# Altium footprint library PANA_ZA_TYPEV_10mm.PcbLib: 1 footprints
Each footprint in its own frame and in the unit in brackets; x right, y up, seen from the top. Pads: shape width x height; smd on the part's side, far side on the other; paste and mask are expansions set on the pad; w line width, h text height; cw(c..) or ccw(c..) is an arc to the next point about the centre after c.
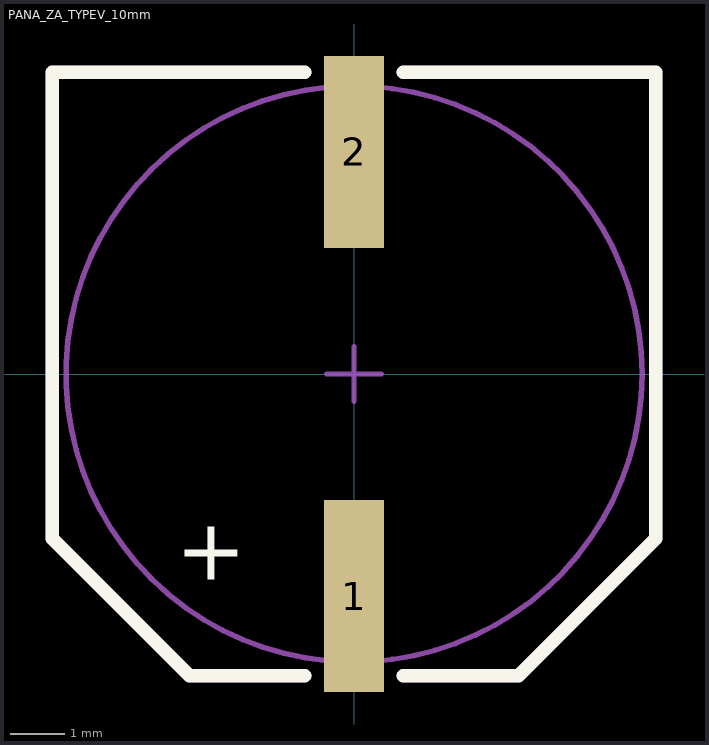
[diagram p0: the footprint, top view; thin cyan lines are the x and y axes]

## PANA_ZA_TYPEV_10mm [mm] "EEH-ZA1H101P"
height 10.5
pads (2):
  rect 1.1x3.5 smd: 1(0,-4.05) 2(0,4.05)
Top Overlay:
  lines w0.25: -0.9,-5.5 -3,-5.5 -5.5,-3 -5.5,5.5 -0.9,5.5 ; 0.9,-5.5 3,-5.5 5.5,-3 5.5,5.5 0.9,5.5
  text "+" at -3.25,-3.75 h1.12
Mechanical 1:
  lines w0.25: -0.9,-5.5 -3,-5.5 -5.5,-3 -5.5,5.5 -0.9,5.5 ; 0.9,-5.5 3,-5.5 5.5,-3 5.5,5.5 0.9,5.5
Mechanical 13:
  circle w0.1: c0,0 r5.25
Mechanical 15:
  lines w0.1: -0.5,0 0.5,0 ; 0,-0.5 0,0.5
3D body: height 10.5, standoff 0, extent -5.249,-5.25 5.248,5.25